# Altium footprint library PcbLib1.PcbLib: 37 footprints (part 3 of 3)
Each footprint in its own frame and in the unit in brackets; x right, y up, seen from the top. Pads: shape width x height; smd on the part's side, far side on the other; paste and mask are expansions set on the pad; w line width, h text height; cw(c..) or ccw(c..) is an arc to the next point about the centre after c.
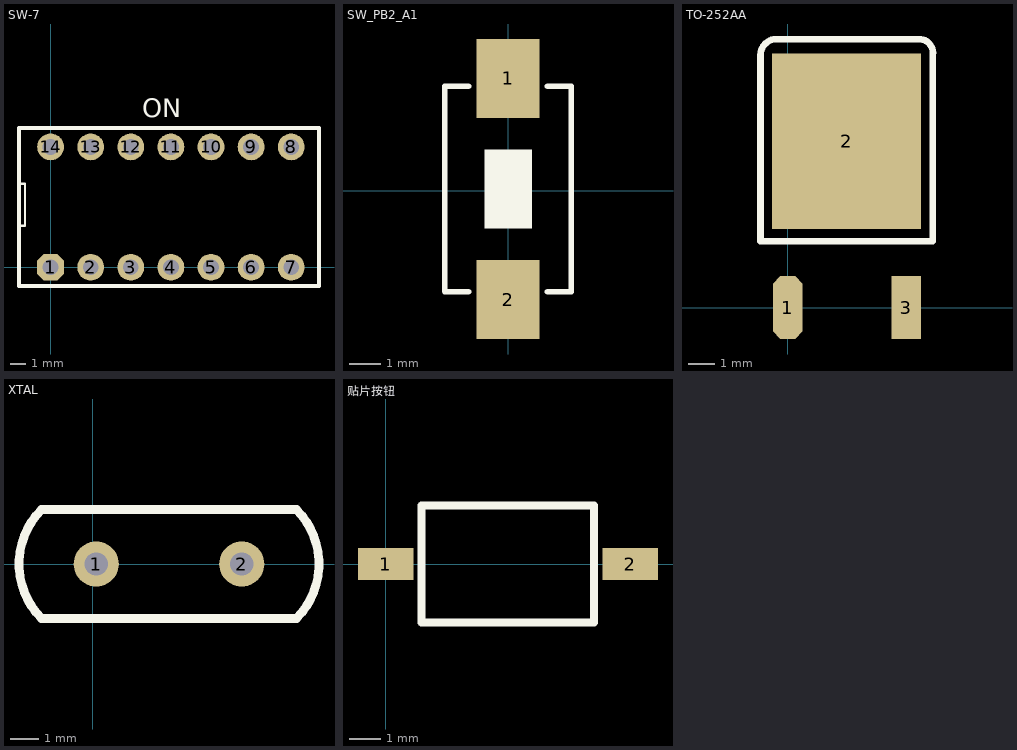
[diagram p2: the footprints below, top view; thin cyan lines are the x and y axes]

## SW-7 [mm]
pads (14):
  oct 1.7x1.7 hole 1: 1(0,0)
  round 1.7 hole 1: 2(2.54,0) 3(5.08,0) 4(7.62,0) 5(10.16,0) 6(12.7,0) 7(15.24,0) 8(15.24,7.62) 9(12.7,7.62) 10(10.16,7.62) 11(7.62,7.62) 12(5.08,7.62) 13(2.54,7.62) 14(0,7.62)
Top Overlay:
  lines w0.152: -2,2.62 -1.619,2.62 -1.619,5.287 -2,5.287
  lines w0.254: -2,-1.19 -2,8.81 17,8.81 17,-1.19 -2,-1.19
  text "ON" at 5.8,9.1 h2

## SW_PB2_A1 [mm]
pads (2):
  rect 2x2.5 smd: 1(0,3.556) 2(0,-3.444)
Top Overlay:
  region: -0.747,1.309 -0.747,-1.191 0.753,-1.191 0.753,1.309
  lines w0.178: -1.25,-3.194 -2,-3.19 -2,3.306 -1.25,3.306 ; 1.25,-3.194 2,-3.194 2,3.306 1.25,3.306
3D body: height 2.5, standoff 0, extent -1.933,-3.945 1.917,3.945

## TO-252AA [mil]
pads (3):
  oct 45x95 smd: 1(0,0)
  rect 225x265 smd: 2(89,251)
  rect 45x95 smd: 3(179,0)
Top Overlay:
  lines w10: -41,100 -41,381 cw(c-17,381) -17,405 201,405 cw(c198,384) 219,381 219,100 -41,100
3D body: height 86.61, standoff 0, extent -37.4,-3.94 218.5,389.76

## XTAL [mil]
pads (2):
  round 62 hole 32: 1(5,0) 2(205,0)
Top Overlay:
  lines w12: -70,-75 cw(c5,0) -70,75 280,75 cw(c205,0) 280,-75 -70,-75

## 贴片按钮 [mm]
pads (2):
  rect 1.75x1 smd: 1(0,0) 2(7.75,0)
Top Overlay:
  lines w0.254: 1.143,-1.85 1.143,1.85 6.604,1.85 6.604,-1.85 1.143,-1.85